# Altium footprint library 1049P.PcbLib: 1 footprints
Each footprint in its own frame and in the unit in brackets; x right, y up, seen from the top. Pads: shape width x height; smd on the part's side, far side on the other; paste and mask are expansions set on the pad; w line width, h text height; cw(c..) or ccw(c..) is an arc to the next point about the centre after c.
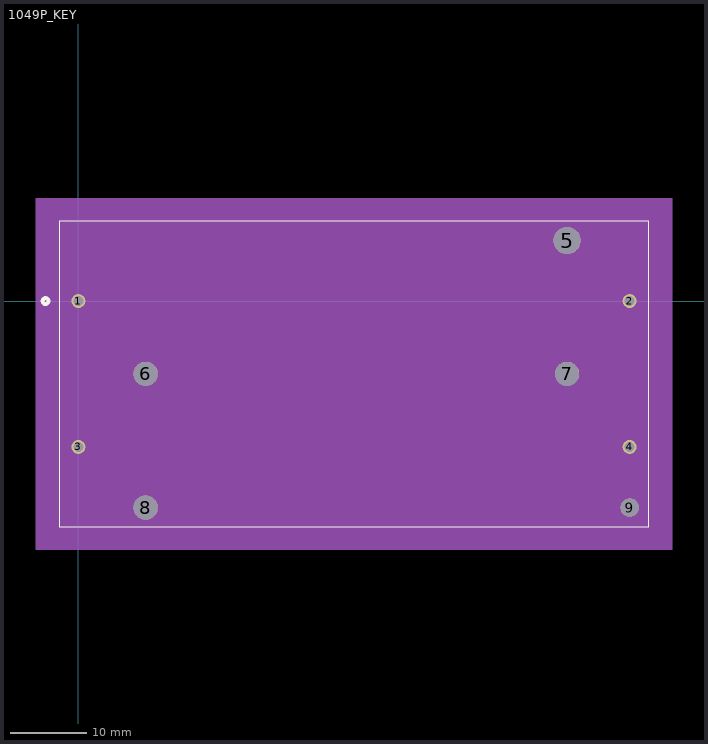
[diagram p0: the footprint, top view; thin cyan lines are the x and y axes]

## 1049P_KEY [mil]
pads (9):
  round 72 hole 52 mask+0: 1(0,0) 2(2845,0) 3(0,-753) 4(2845,-753)
  round 140 hole 140 unplated: 5(2522,312)
  round 125 hole 125 unplated: 6(347,-376) 7(2522,-376) 8(347,-1066)
  round 94 hole 94 unplated: 9(2845,-1066)
Top Overlay:
  circle w20: c-169.5,0 r15
  lines w6: -99.5,-1164.5 2944.5,-1164.5 2944.5,411.5 -99.5,411.5 -99.5,-1164.5
Bottom Overlay:
  circle w20: c-169.5,0 r15
Mechanical 5:
  region: -219.5,531.5 3064.5,531.5 3064.5,-1284.5 -219.5,-1284.5
Mechanical 13:
  circle w20: c0,75 r15
  lines w1: -94.5,-1159.5 2939.5,-1159.5 2939.5,406.5 -94.5,406.5 -94.5,-1159.5
Mechanical 15:
  region: 2949.5,416.5 -104.5,416.5 -104.5,-1169.5 2949.5,-1169.5
  lines w6: -104.5,-1169.5 -104.5,416.5 2949.5,416.5 2949.5,-1169.5 -104.5,-1169.5
3D body: height 10, standoff 0, extent 0,0 10,10